# EAGLE library part LMC7660IMX/NOPB (library seniorDesign)
Texas Instruments LMC7660IMX/NOPB -5V reference for lcd backlight, input card http://www.ti.com/lit/ds/symlink/lmc7660.pdf
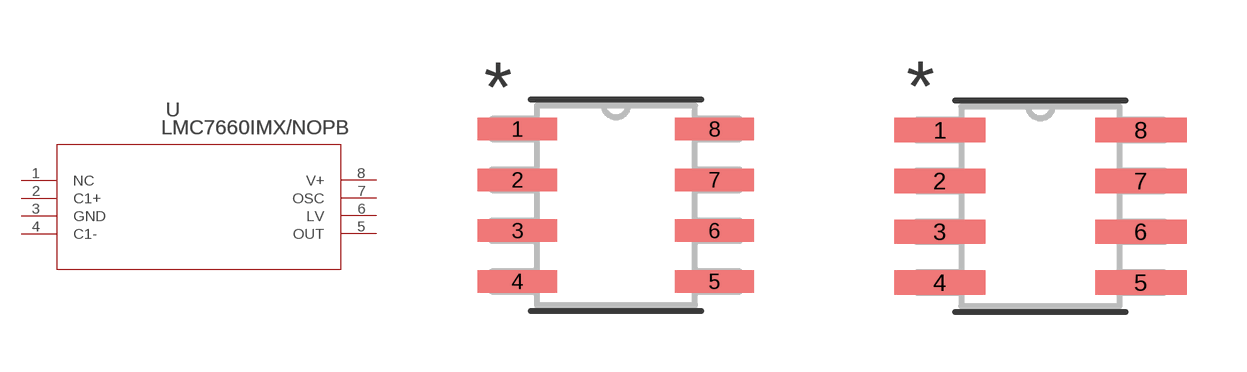
[diagram p9: symbol with the pads of M08A; footprints M08A, M08A-M]

Designator prefix U

## LMC7660IMX/NOPB (MANUFACTURER_PART_NUMBER: LMC7660IMXNOPB; VENDOR: Texas Instruments)  [M08A]
1  NC  pas
2  C1+  in
3  GND  pwr
4  C1-  in
5  OUT  pwr
6  LV  in
7  OSC  in
8  V+  pwr

## LMC7660IMX/NOPBM08A-M (MANUFACTURER_PART_NUMBER: LMC7660IMXNOPB; VENDOR: Texas Instruments)  [M08A-M]
Pads as for M08A

## LMC7660IMX/NOPBM08A-L (MANUFACTURER_PART_NUMBER: LMC7660IMXNOPB; VENDOR: Texas Instruments)  [M08A-L]
Pads as for M08A

## Footprint M08A (pad centres in mm)
smd 1.981 x 0.559: 1 -2.464,1.905; 2 -2.464,0.635; 3 -2.464,-0.635; 4 -2.464,-1.905; 5 2.464,-1.905; 6 2.464,-0.635; 7 2.464,0.635; 8 2.464,1.905

## Footprint M08A-M (pad centres in mm)
smd 2.286 x 0.61: 1 -2.515,1.905; 2 -2.515,0.635; 3 -2.515,-0.635; 4 -2.515,-1.905; 5 2.515,-1.905; 6 2.515,-0.635; 7 2.515,0.635; 8 2.515,1.905

## Footprint M08A-L (pad centres in mm)
smd 1.676 x 0.508: 1 -2.413,1.905; 2 -2.413,0.635; 3 -2.413,-0.635; 4 -2.413,-1.905; 5 2.413,-1.905; 6 2.413,-0.635; 7 2.413,0.635; 8 2.413,1.905